# Altium schematic symbol library Connectors.SchLib: 471 symbols (part 2 of 2)
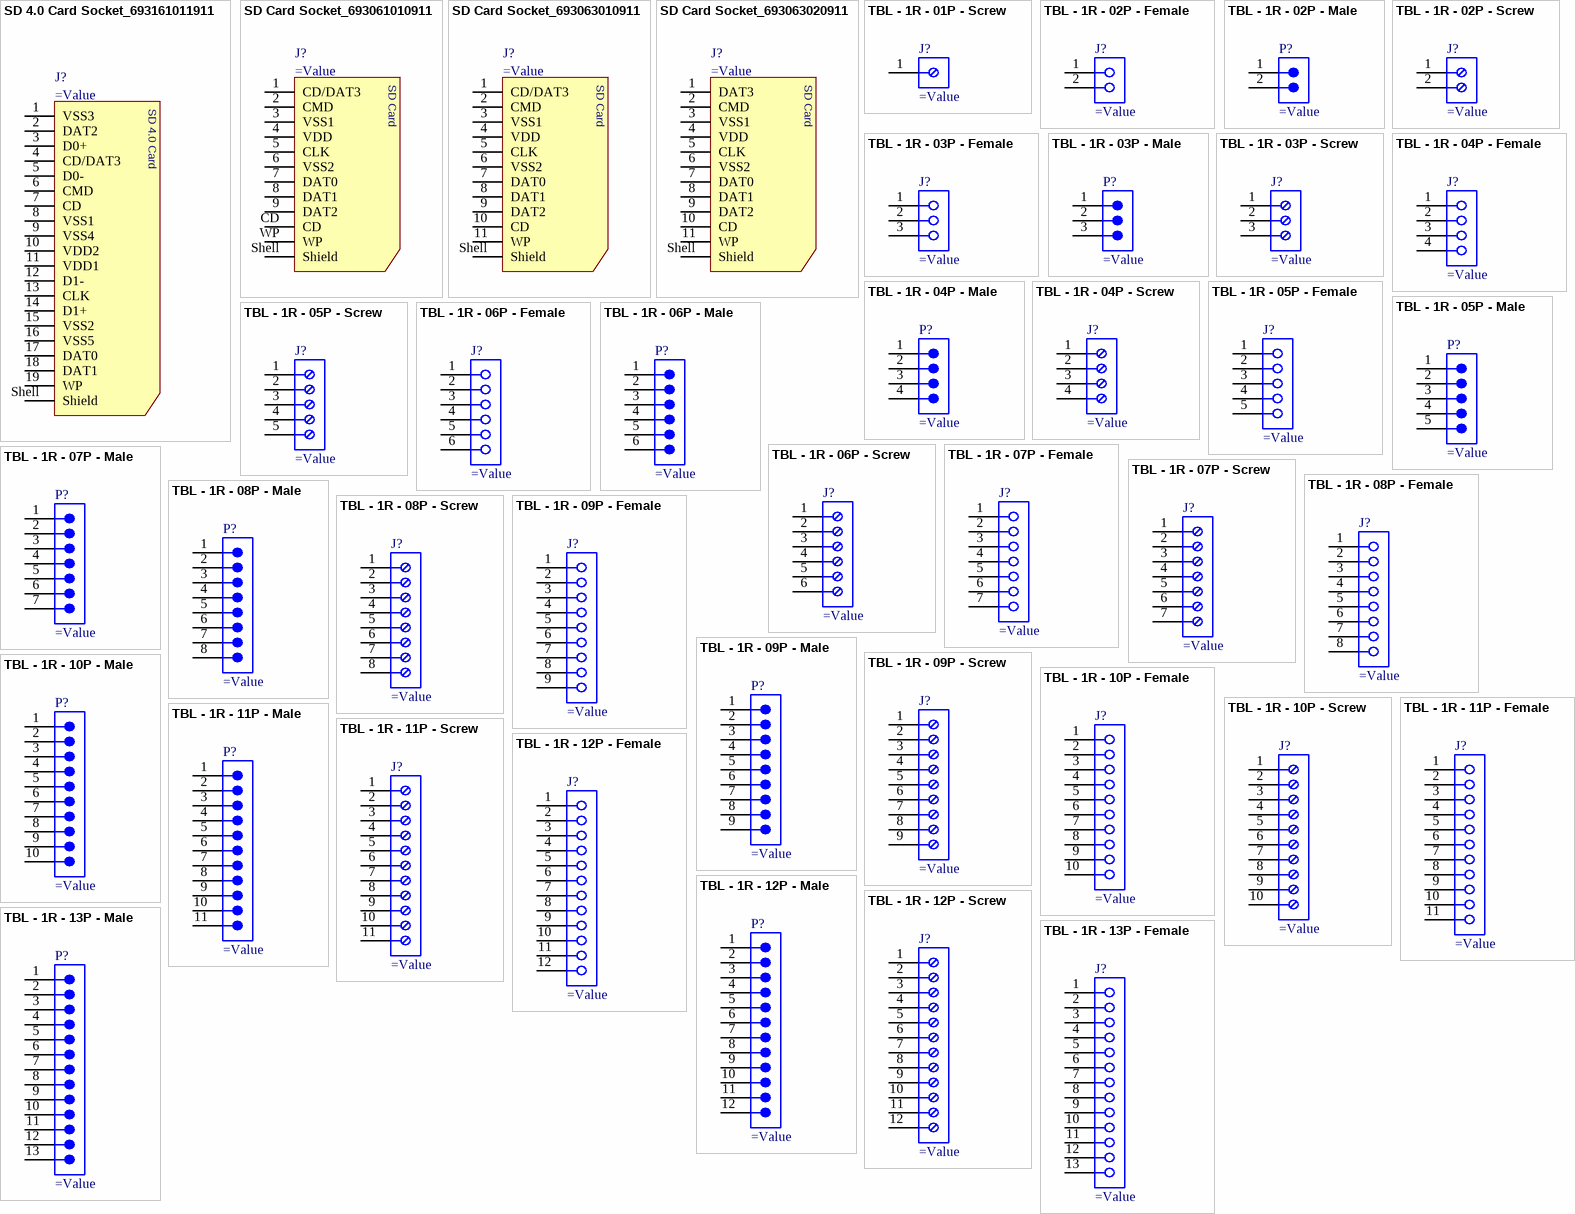
[diagram p15: symbols SD 4.0 Card Socket_693161011911 to TBL - 1R - 13P - Male]

## TBL - 1R - 05P - Screw
designator J?
pins: 1, 2, 3, 4, 5

## TBL - 1R - 06P - Female
designator J?
pins: 1, 2, 3, 4, 5, 6

## TBL - 1R - 06P - Male
designator P?
pins: 1, 2, 3, 4, 5, 6

## TBL - 1R - 06P - Screw
designator J?
pins: 1, 2, 3, 4, 5, 6

## TBL - 1R - 07P - Female
designator J?
pins: 1, 2, 3, 4, 5, 6, 7

## TBL - 1R - 07P - Male
designator P?
pins: 1, 2, 3, 4, 5, 6, 7

## TBL - 1R - 07P - Screw
designator J?
pins: 1, 2, 3, 4, 5, 6, 7

## TBL - 1R - 08P - Female
designator J?
pins: 1, 2, 3, 4, 5, 6, 7, 8

## TBL - 1R - 08P - Male
designator P?
pins: 1, 2, 3, 4, 5, 6, 7, 8

## TBL - 1R - 08P - Screw
designator J?
pins: 1, 2, 3, 4, 5, 6, 7, 8

## TBL - 1R - 09P - Female
designator J?
pins: 1, 2, 3, 4, 5, 6, 7, 8, 9

## TBL - 1R - 09P - Male
designator P?
pins: 1, 2, 3, 4, 5, 6, 7, 8, 9

## TBL - 1R - 09P - Screw
designator J?
pins: 1, 2, 3, 4, 5, 6, 7, 8, 9

## TBL - 1R - 10P - Female
designator J?
pins: 1, 2, 3, 4, 5, 6, 7, 8, 9, 10

## TBL - 1R - 10P - Male
designator P?
pins: 1, 2, 3, 4, 5, 6, 7, 8, 9, 10

## TBL - 1R - 10P - Screw
designator J?
pins: 1, 2, 3, 4, 5, 6, 7, 8, 9, 10

## TBL - 1R - 11P - Female
designator J?
pins: 1, 2, 3, 4, 5, 6, 7, 8, 9, 10, 11

## TBL - 1R - 11P - Male
designator P?
pins: 1, 2, 3, 4, 5, 6, 7, 8, 9, 10, 11

## TBL - 1R - 11P - Screw
designator J?
pins: 1, 2, 3, 4, 5, 6, 7, 8, 9, 10, 11

## TBL - 1R - 12P - Female
designator J?
pins: 1, 2, 3, 4, 5, 6, 7, 8, 9, 10, 11, 12

## TBL - 1R - 12P - Male
designator P?
pins: 1, 2, 3, 4, 5, 6, 7, 8, 9, 10, 11, 12

## TBL - 1R - 12P - Screw
designator J?
pins: 1, 2, 3, 4, 5, 6, 7, 8, 9, 10, 11, 12

## TBL - 1R - 13P - Female
designator J?
pins: 1, 2, 3, 4, 5, 6, 7, 8, 9, 10, 11, 12, 13

## TBL - 1R - 13P - Male
designator P?
pins: 1, 2, 3, 4, 5, 6, 7, 8, 9, 10, 11, 12, 13

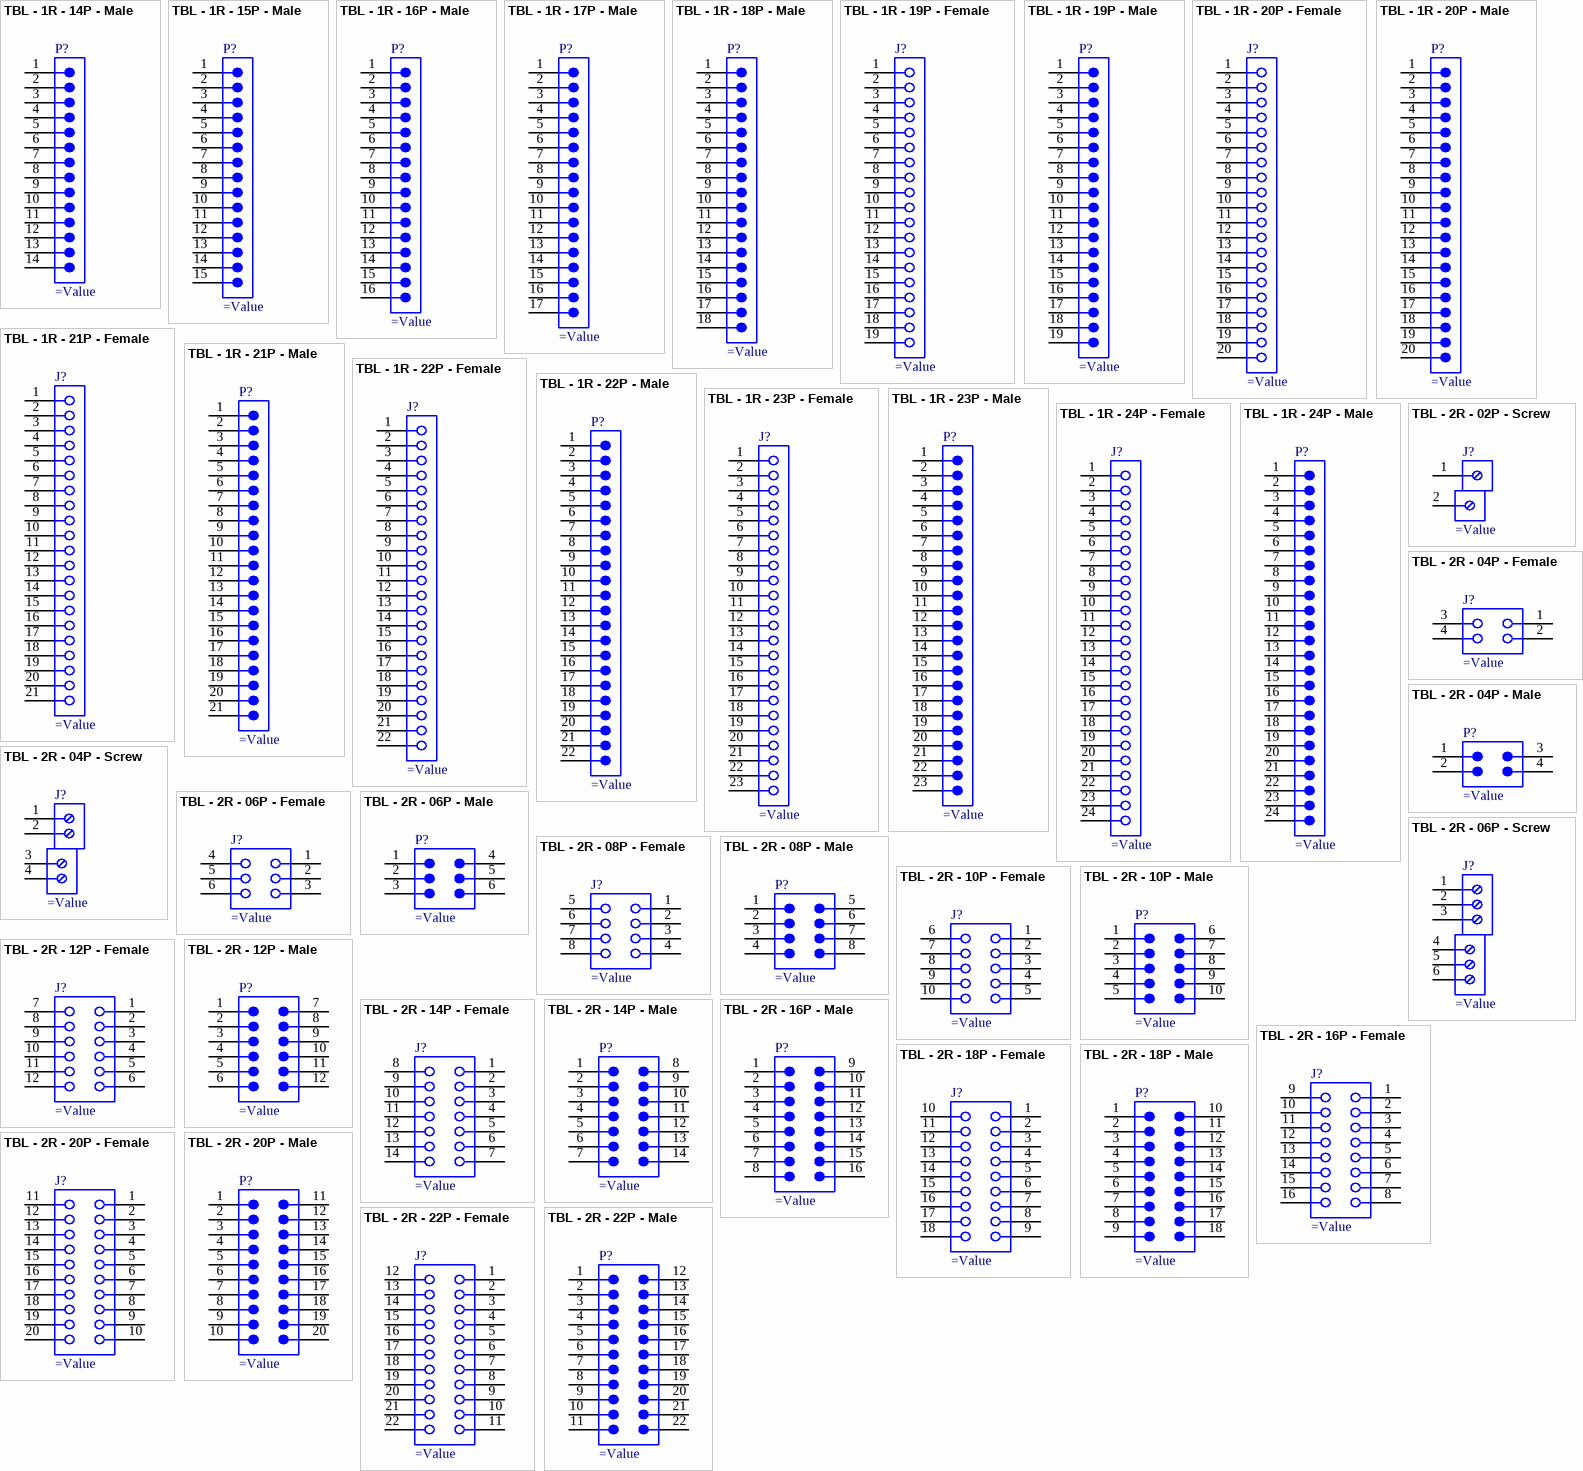
[diagram p13: symbols TBL - 1R - 14P - Male to TBL - 2R - 22P - Male]

## TBL - 1R - 14P - Male
designator P?
pins: 1, 2, 3, 4, 5, 6, 7, 8, 9, 10, 11, 12, 13, 14

## TBL - 1R - 15P - Male
designator P?
pins: 1, 2, 3, 4, 5, 6, 7, 8, 9, 10, 11, 12, 13, 14, 15

## TBL - 1R - 16P - Male
designator P?
pins: 1, 2, 3, 4, 5, 6, 7, 8, 9, 10, 11, 12, 13, 14, 15, 16

## TBL - 1R - 17P - Male
designator P?
pins: 1, 2, 3, 4, 5, 6, 7, 8, 9, 10, 11, 12, 13, 14, 15, 16, 17

## TBL - 1R - 18P - Male
designator P?
pins: 1, 2, 3, 4, 5, 6, 7, 8, 9, 10, 11, 12, 13, 14, 15, 16, 17, 18

## TBL - 1R - 19P - Female
designator J?
pins: 1, 2, 3, 4, 5, 6, 7, 8, 9, 10, 11, 12, 13, 14, 15, 16, 17, 18, 19

## TBL - 1R - 19P - Male
designator P?
pins: 1, 2, 3, 4, 5, 6, 7, 8, 9, 10, 11, 12, 13, 14, 15, 16, 17, 18, 19

## TBL - 1R - 20P - Female
designator J?
pins: 1, 2, 3, 4, 5, 6, 7, 8, 9, 10, 11, 12, 13, 14, 15, 16, 17, 18, 19, 20

## TBL - 1R - 20P - Male
designator P?
pins: 1, 2, 3, 4, 5, 6, 7, 8, 9, 10, 11, 12, 13, 14, 15, 16, 17, 18, 19, 20

## TBL - 1R - 21P - Female
designator J?
pins: 1, 2, 3, 4, 5, 6, 7, 8, 9, 10, 11, 12, 13, 14, 15, 16, 17, 18, 19, 20, 21

## TBL - 1R - 21P - Male
designator P?
pins: 1, 2, 3, 4, 5, 6, 7, 8, 9, 10, 11, 12, 13, 14, 15, 16, 17, 18, 19, 20, 21

## TBL - 1R - 22P - Female
designator J?
pins: 1, 2, 3, 4, 5, 6, 7, 8, 9, 10, 11, 12, 13, 14, 15, 16, 17, 18, 19, 20, 21, 22

## TBL - 1R - 22P - Male
designator P?
pins: 1, 2, 3, 4, 5, 6, 7, 8, 9, 10, 11, 12, 13, 14, 15, 16, 17, 18, 19, 20, 21, 22

## TBL - 1R - 23P - Female
designator J?
pins: 1, 2, 3, 4, 5, 6, 7, 8, 9, 10, 11, 12, 13, 14, 15, 16, 17, 18, 19, 20, 21, 22, 23

## TBL - 1R - 23P - Male
designator P?
pins: 1, 2, 3, 4, 5, 6, 7, 8, 9, 10, 11, 12, 13, 14, 15, 16, 17, 18, 19, 20, 21, 22, 23

## TBL - 1R - 24P - Female
designator J?
pins: 1, 2, 3, 4, 5, 6, 7, 8, 9, 10, 11, 12, 13, 14, 15, 16, 17, 18, 19, 20, 21, 22, 23, 24

## TBL - 1R - 24P - Male
designator P?
pins: 1, 2, 3, 4, 5, 6, 7, 8, 9, 10, 11, 12, 13, 14, 15, 16, 17, 18, 19, 20, 21, 22, 23, 24

## TBL - 2R - 02P - Screw
designator J?
pins: 1, 2

## TBL - 2R - 04P - Female
designator J?
pins: 1, 2, 3, 4

## TBL - 2R - 04P - Male
designator P?
pins: 1, 2, 3, 4

## TBL - 2R - 04P - Screw
designator J?
pins: 1, 2, 3, 4

## TBL - 2R - 06P - Female
designator J?
pins: 1, 2, 3, 4, 5, 6

## TBL - 2R - 06P - Male
designator P?
pins: 1, 2, 3, 4, 5, 6

## TBL - 2R - 06P - Screw
designator J?
pins: 1, 2, 3, 4, 5, 6

## TBL - 2R - 08P - Female
designator J?
pins: 1, 2, 3, 4, 5, 6, 7, 8

## TBL - 2R - 08P - Male
designator P?
pins: 1, 2, 3, 4, 5, 6, 7, 8

## TBL - 2R - 10P - Female
designator J?
pins: 1, 2, 3, 4, 5, 6, 7, 8, 9, 10

## TBL - 2R - 10P - Male
designator P?
pins: 1, 2, 3, 4, 5, 6, 7, 8, 9, 10

## TBL - 2R - 12P - Female
designator J?
pins: 1, 2, 3, 4, 5, 6, 7, 8, 9, 10, 11, 12

## TBL - 2R - 12P - Male
designator P?
pins: 1, 2, 3, 4, 5, 6, 7, 8, 9, 10, 11, 12

## TBL - 2R - 14P - Female
designator J?
pins: 1, 2, 3, 4, 5, 6, 7, 8, 9, 10, 11, 12, 13, 14

## TBL - 2R - 14P - Male
designator P?
pins: 1, 2, 3, 4, 5, 6, 7, 8, 9, 10, 11, 12, 13, 14

## TBL - 2R - 16P - Female
designator J?
pins: 1, 2, 3, 4, 5, 6, 7, 8, 9, 10, 11, 12, 13, 14, 15, 16

## TBL - 2R - 16P - Male
designator P?
pins: 1, 2, 3, 4, 5, 6, 7, 8, 9, 10, 11, 12, 13, 14, 15, 16

## TBL - 2R - 18P - Female
designator J?
pins: 1, 2, 3, 4, 5, 6, 7, 8, 9, 10, 11, 12, 13, 14, 15, 16, 17, 18

## TBL - 2R - 18P - Male
designator P?
pins: 1, 2, 3, 4, 5, 6, 7, 8, 9, 10, 11, 12, 13, 14, 15, 16, 17, 18

## TBL - 2R - 20P - Female
designator J?
pins: 1, 2, 3, 4, 5, 6, 7, 8, 9, 10, 11, 12, 13, 14, 15, 16, 17, 18, 19, 20

## TBL - 2R - 20P - Male
designator P?
pins: 1, 2, 3, 4, 5, 6, 7, 8, 9, 10, 11, 12, 13, 14, 15, 16, 17, 18, 19, 20

## TBL - 2R - 22P - Female
designator J?
pins: 1, 2, 3, 4, 5, 6, 7, 8, 9, 10, 11, 12, 13, 14, 15, 16, 17, 18, 19, 20, 21, 22

## TBL - 2R - 22P - Male
designator P?
pins: 1, 2, 3, 4, 5, 6, 7, 8, 9, 10, 11, 12, 13, 14, 15, 16, 17, 18, 19, 20, 21, 22

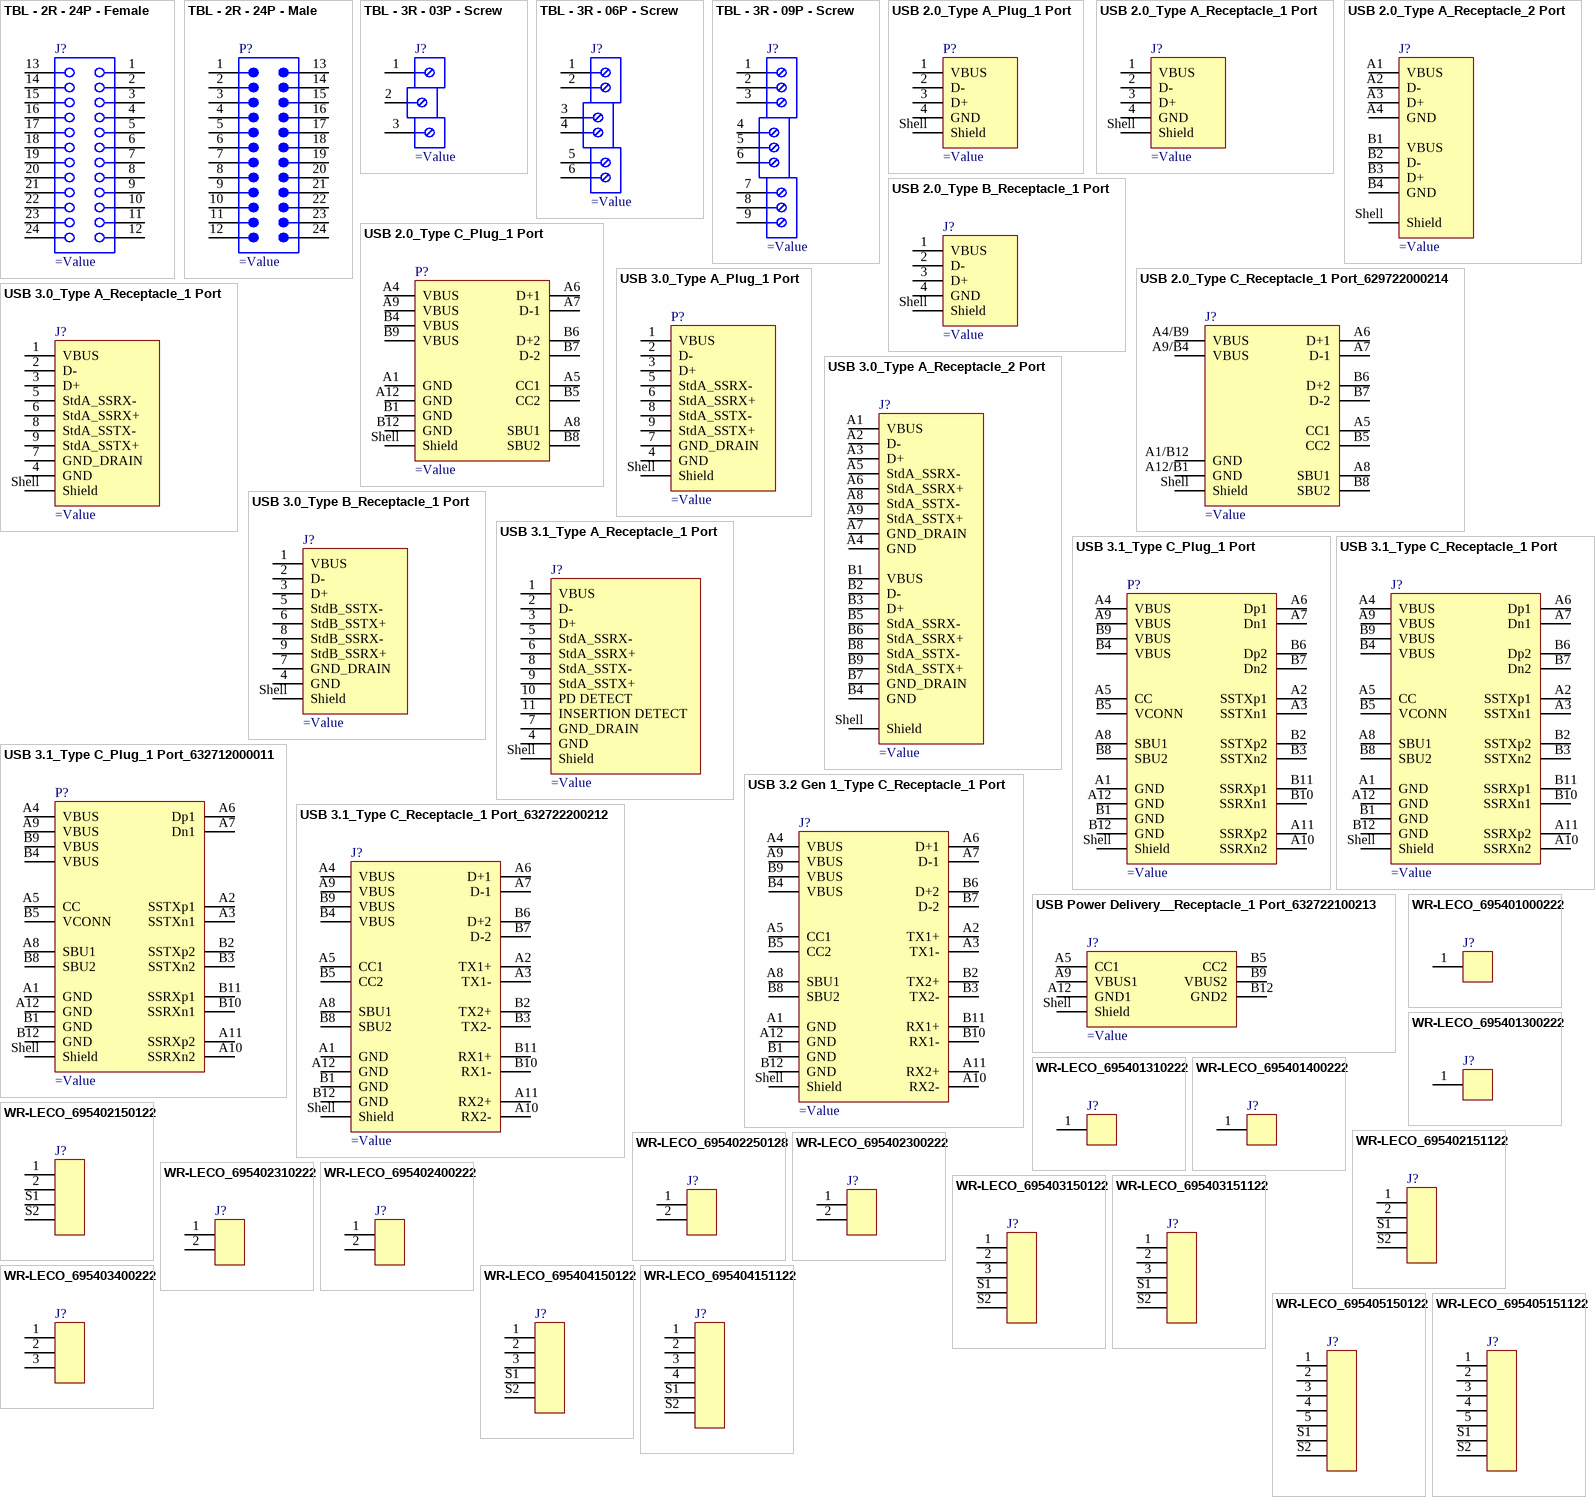
[diagram p14: symbols TBL - 2R - 24P - Female to WR-LECO_695405151122]

## TBL - 2R - 24P - Female
designator J?
pins: 1, 2, 3, 4, 5, 6, 7, 8, 9, 10, 11, 12, 13, 14, 15, 16, 17, 18, 19, 20, 21, 22, 23, 24

## TBL - 2R - 24P - Male
designator P?
pins: 1, 2, 3, 4, 5, 6, 7, 8, 9, 10, 11, 12, 13, 14, 15, 16, 17, 18, 19, 20, 21, 22, 23, 24

## TBL - 3R - 03P - Screw
designator J?
pins: 1, 2, 3

## TBL - 3R - 06P - Screw
designator J?
pins: 1, 2, 3, 4, 5, 6

## TBL - 3R - 09P - Screw
designator J?
pins: 1, 2, 3, 4, 5, 6, 7, 8, 9

## USB 2.0_Type A_Plug_1 Port
designator P?
pins: 1 VBUS, 2 D-, 3 D+, 4 GND, Shell Shield

## USB 2.0_Type A_Receptacle_1 Port
designator J?
pins: 1 VBUS, 2 D-, 3 D+, 4 GND, Shell Shield

## USB 2.0_Type A_Receptacle_2 Port
designator J?
pins: A1 VBUS, A2 D-, A3 D+, A4 GND, B1 VBUS, B2 D-, B3 D+, B4 GND, Shell Shield

## USB 2.0_Type B_Receptacle_1 Port
designator J?
pins: 1 VBUS, 2 D-, 3 D+, 4 GND, Shell Shield

## USB 2.0_Type C_Plug_1 Port
designator P?
pins: A1 GND, A4 VBUS, A5 CC1, A6 D+1, A7 D-1, A8 SBU1, A9 VBUS, A12 GND, B1 GND, B4 VBUS, B5 CC2, B6 D+2, B7 D-2, B8 SBU2, B9 VBUS, B12 GND, Shell Shield

## USB 2.0_Type C_Receptacle_1 Port_629722000214
designator J?
pins: A1/B12 GND, A4/B9 VBUS, A5 CC1, A6 D+1, A7 D-1, A8 SBU1, A9/B4 VBUS, A12/B1 GND, B5 CC2, B6 D+2, B7 D-2, B8 SBU2, Shell Shield

## USB 3.0_Type A_Plug_1 Port
designator P?
pins: 1 VBUS, 2 D-, 3 D+, 4 GND, 5 StdA_SSRX-, 6 StdA_SSRX+, 7 GND_DRAIN, 8 StdA_SSTX-, 9 StdA_SSTX+, Shell Shield

## USB 3.0_Type A_Receptacle_1 Port
designator J?
pins: 1 VBUS, 2 D-, 3 D+, 4 GND, 5 StdA_SSRX-, 6 StdA_SSRX+, 7 GND_DRAIN, 8 StdA_SSTX-, 9 StdA_SSTX+, Shell Shield

## USB 3.0_Type A_Receptacle_2 Port
designator J?
pins: A1 VBUS, A2 D-, A3 D+, A4 GND, A5 StdA_SSRX-, A6 StdA_SSRX+, A7 GND_DRAIN, A8 StdA_SSTX-, A9 StdA_SSTX+, B1 VBUS, B2 D-, B3 D+, B4 GND, B5 StdA_SSRX-, B6 StdA_SSRX+, B7 GND_DRAIN, B8 StdA_SSTX-, B9 StdA_SSTX+, Shell Shield

## USB 3.0_Type B_Receptacle_1 Port
designator J?
pins: 1 VBUS, 2 D-, 3 D+, 4 GND, 5 StdB_SSTX-, 6 StdB_SSTX+, 7 GND_DRAIN, 8 StdB_SSRX-, 9 StdB_SSRX+, Shell Shield

## USB 3.1_Type A_Receptacle_1 Port
designator J?
pins: 1 VBUS, 2 D-, 3 D+, 4 GND, 5 StdA_SSRX-, 6 StdA_SSRX+, 7 GND_DRAIN, 8 StdA_SSTX-, 9 StdA_SSTX+, 10 PD DETECT, 11 INSERTION DETECT, Shell Shield

## USB 3.1_Type C_Plug_1 Port
designator P?
pins: A1 GND, A2 SSTXp1, A3 SSTXn1, A4 VBUS, A5 CC, A6 Dp1, A7 Dn1, A8 SBU1, A9 VBUS, A10 SSRXn2, A11 SSRXp2, A12 GND, B1 GND, B2 SSTXp2, B3 SSTXn2, B4 VBUS, B5 VCONN, B6 Dp2, B7 Dn2, B8 SBU2, B9 VBUS, B10 SSRXn1, B11 SSRXp1, B12 GND, Shell Shield

## USB 3.1_Type C_Plug_1 Port_632712000011
designator P?
pins: A1 GND, A2 SSTXp1, A3 SSTXn1, A4 VBUS, A5 CC, A6 Dp1, A7 Dn1, A8 SBU1, A9 VBUS, A10 SSRXn2, A11 SSRXp2, A12 GND, B1 GND, B2 SSTXp2, B3 SSTXn2, B4 VBUS, B5 VCONN, B8 SBU2, B9 VBUS, B10 SSRXn1, B11 SSRXp1, B12 GND, Shell Shield

## USB 3.1_Type C_Receptacle_1 Port
designator J?
pins: A1 GND, A2 SSTXp1, A3 SSTXn1, A4 VBUS, A5 CC, A6 Dp1, A7 Dn1, A8 SBU1, A9 VBUS, A10 SSRXn2, A11 SSRXp2, A12 GND, B1 GND, B2 SSTXp2, B3 SSTXn2, B4 VBUS, B5 VCONN, B6 Dp2, B7 Dn2, B8 SBU2, B9 VBUS, B10 SSRXn1, B11 SSRXp1, B12 GND, Shell Shield

## USB 3.1_Type C_Receptacle_1 Port_632722200212
designator J?
pins: A1 GND, A2 TX1+, A3 TX1-, A4 VBUS, A5 CC1, A6 D+1, A7 D-1, A8 SBU1, A9 VBUS, A10 RX2-, A11 RX2+, A12 GND, B1 GND, B2 TX2+, B3 TX2-, B4 VBUS, B5 CC2, B6 D+2, B7 D-2, B8 SBU2, B9 VBUS, B10 RX1-, B11 RX1+, B12 GND, Shell Shield

## USB 3.2 Gen 1_Type C_Receptacle_1 Port
designator J?
pins: A1 GND, A2 TX1+, A3 TX1-, A4 VBUS, A5 CC1, A6 D+1, A7 D-1, A8 SBU1, A9 VBUS, A10 RX2-, A11 RX2+, A12 GND, B1 GND, B2 TX2+, B3 TX2-, B4 VBUS, B5 CC2, B6 D+2, B7 D-2, B8 SBU2, B9 VBUS, B10 RX1-, B11 RX1+, B12 GND, Shell Shield

## USB Power Delivery__Receptacle_1 Port_632722100213
designator J?
pins: A5 CC1, A9 VBUS1, A12 GND1, B5 CC2, B9 VBUS2, B12 GND2, Shell Shield

## WR-LECO_695401000222
designator J?
pins: 1

## WR-LECO_695401300222
designator J?
pins: 1

## WR-LECO_695401310222
designator J?
pins: 1

## WR-LECO_695401400222
designator J?
pins: 1

## WR-LECO_695402150122
designator J?
pins: 1, 2, S1 Shell, S2 Shell

## WR-LECO_695402151122
designator J?
pins: 1, 2, S1 Shell, S2 Shell

## WR-LECO_695402250128
designator J?
pins: 1, 2

## WR-LECO_695402300222
designator J?
pins: 1, 2

## WR-LECO_695402310222
designator J?
pins: 1, 2

## WR-LECO_695402400222
designator J?
pins: 1, 2

## WR-LECO_695403150122
designator J?
pins: 1, 2, 3, S1 Shell, S2 Shell

## WR-LECO_695403151122
designator J?
pins: 1, 2, 3, S1 Shell, S2 Shell

## WR-LECO_695403400222
designator J?
pins: 1, 2, 3

## WR-LECO_695404150122
designator J?
pins: 1, 2, 3, S1 Shell, S2 Shell

## WR-LECO_695404151122
designator J?
pins: 1, 2, 3, 4, S1 Shell, S2 Shell

## WR-LECO_695405150122
designator J?
pins: 1, 2, 3, 4, 5, S1 Shell, S2 Shell

## WR-LECO_695405151122
designator J?
pins: 1, 2, 3, 4, 5, S1 Shell, S2 Shell